# Altium footprint library Modules.PcbLib: 11 footprints
Each footprint in its own frame and in the unit in brackets; x right, y up, seen from the top. Pads: shape width x height; smd on the part's side, far side on the other; paste and mask are expansions set on the pad; w line width, h text height; cw(c..) or ccw(c..) is an arc to the next point about the centre after c.
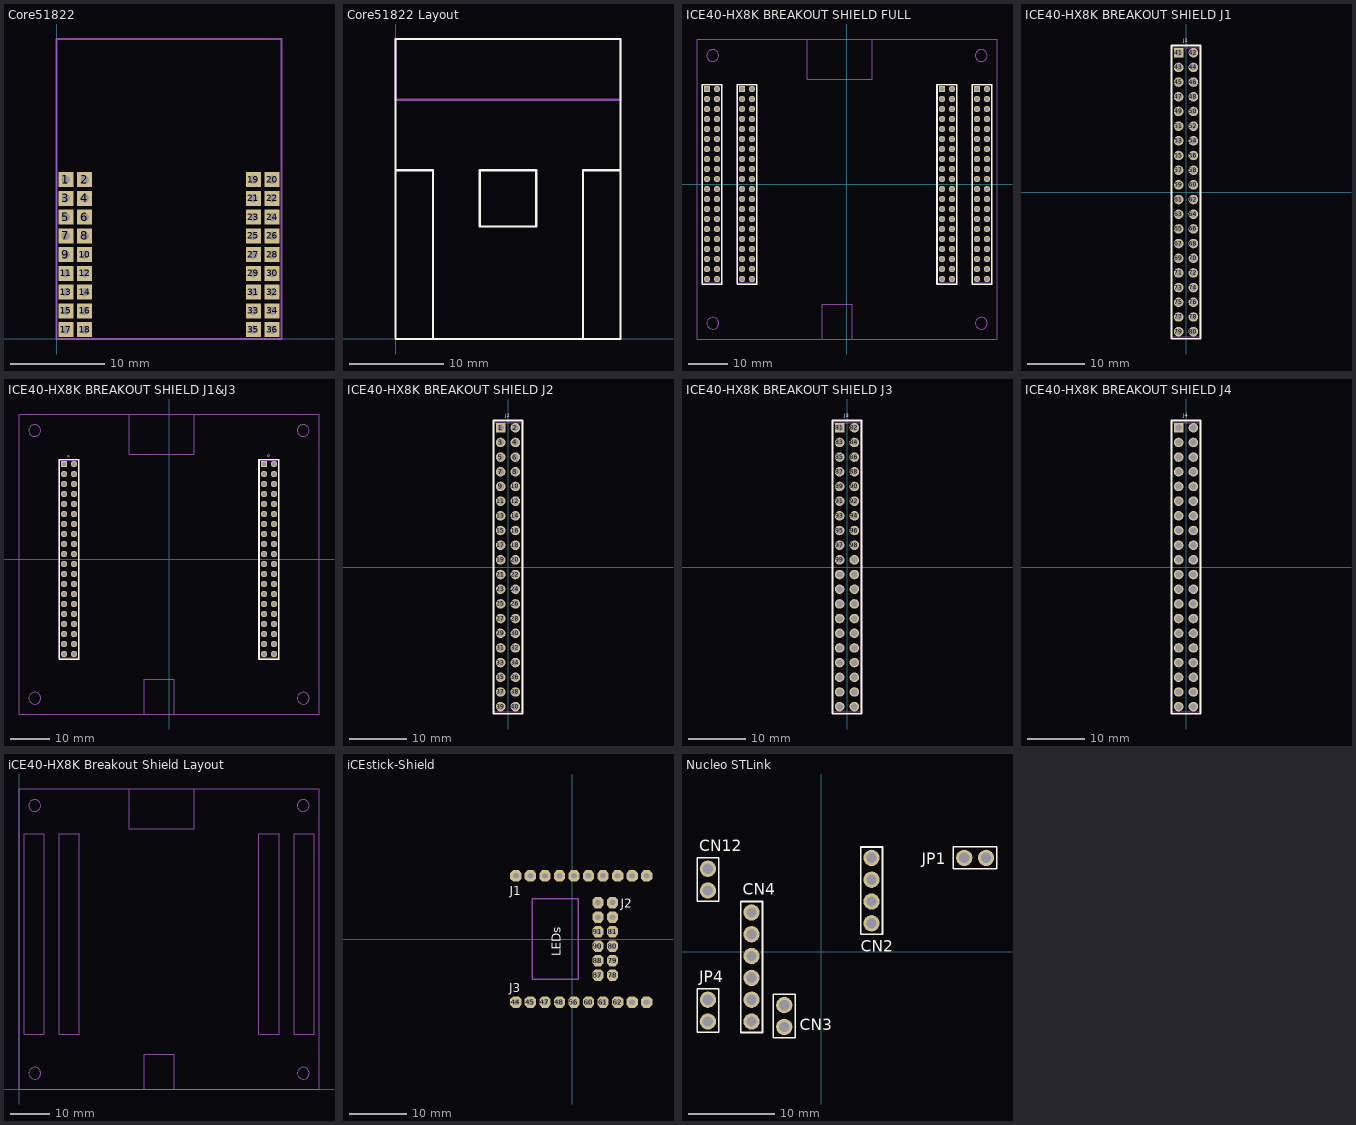
[diagram p0: the footprints below, top view; thin cyan lines are the x and y axes]

## Core51822 [mm]
pads (36):
  rect 1.6x1.6 hole 0.9: 1(1,17) 2(3,17) 3(1,15) 4(3,15) 5(1,13) 6(3,13) 7(1,11) 8(3,11) 9(1,9) 10(3,9) 11(1,7) 12(3,7) 13(1,5) 14(3,5) 15(1,3) 16(3,3) 17(1,1) 18(3,1) 19(21,17) 20(23,17) 21(21,15) 22(23,15) 23(21,13) 24(23,13) 25(21,11) 26(23,11) 27(21,9) 28(23,9) 29(21,7) 30(23,7) 31(21,5) 32(23,5) 33(21,3) 34(23,3) 35(21,1) 36(23,1)
Mechanical 1:
  lines w0.254: 0,0 24,0 24,32 0,32 0,0

## Core51822 Layout [mm]
Top Overlay:
  lines w0.254: 0,18 4,18 4,0 ; 20,0 20,18 24,18 ; 0,0 0,32 24,32 24,0 0,0 ; 9,12 15,12 15,18 9,18 9,12
Mechanical 12:
  lines w0.254: 0,25.5 0,32 24,32 24,25.5 0,25.5

## ICE40-HX8K BREAKOUT SHIELD FULL [mm]
pads (160):
  rect 1.65x1.65 / inner round 1.65 / far side rect 1.65x1.65 hole 1.1: 1(-35.56,24.13) 41(-26.67,24.13) 81(24.13,24.13) 121(33.02,24.13)
  round 1.65 hole 1.1: 2(-33.02,24.13) 3(-35.56,21.59) 4(-33.02,21.59) 5(-35.56,19.05) 6(-33.02,19.05) 7(-35.56,16.51) 8(-33.02,16.51) 9(-35.56,13.97) 10(-33.02,13.97) 11(-35.56,11.43) 12(-33.02,11.43) 13(-35.56,8.89) 14(-33.02,8.89) 15(-35.56,6.35) 16(-33.02,6.35) 17(-35.56,3.81) 18(-33.02,3.81) 19(-35.56,1.27) 20(-33.02,1.27) 21(-35.56,-1.27) 22(-33.02,-1.27) 23(-35.56,-3.81) 24(-33.02,-3.81) 25(-35.56,-6.35) 26(-33.02,-6.35) 27(-35.56,-8.89) 28(-33.02,-8.89) 29(-35.56,-11.43) 30(-33.02,-11.43) 31(-35.56,-13.97) 32(-33.02,-13.97) 33(-35.56,-16.51) 34(-33.02,-16.51) 35(-35.56,-19.05) 36(-33.02,-19.05) 37(-35.56,-21.59) 38(-33.02,-21.59) 39(-35.56,-24.13) 40(-33.02,-24.13) 42(-24.13,24.13) 43(-26.67,21.59) 44(-24.13,21.59) 45(-26.67,19.05) 46(-24.13,19.05) 47(-26.67,16.51) 48(-24.13,16.51) 49(-26.67,13.97) 50(-24.13,13.97) 51(-26.67,11.43) 52(-24.13,11.43) 53(-26.67,8.89) 54(-24.13,8.89) 55(-26.67,6.35) 56(-24.13,6.35) 57(-26.67,3.81) 58(-24.13,3.81) 59(-26.67,1.27) 60(-24.13,1.27) 61(-26.67,-1.27) 62(-24.13,-1.27) 63(-26.67,-3.81) 64(-24.13,-3.81) 65(-26.67,-6.35) 66(-24.13,-6.35) 67(-26.67,-8.89) 68(-24.13,-8.89) 69(-26.67,-11.43) 70(-24.13,-11.43) 71(-26.67,-13.97) 72(-24.13,-13.97) 73(-26.67,-16.51) 74(-24.13,-16.51) 75(-26.67,-19.05) 76(-24.13,-19.05) 77(-26.67,-21.59) 78(-24.13,-21.59) 79(-26.67,-24.13) 80(-24.13,-24.13) 82(26.67,24.13) 83(24.13,21.59) 84(26.67,21.59) 85(24.13,19.05) 86(26.67,19.05) 87(24.13,16.51) 88(26.67,16.51) 89(24.13,13.97) 90(26.67,13.97) 91(24.13,11.43) 92(26.67,11.43) 93(24.13,8.89) 94(26.67,8.89) 95(24.13,6.35) 96(26.67,6.35) 97(24.13,3.81) 98(26.67,3.81) 99(24.13,1.27) 100(26.67,1.27) 101(24.13,-1.27) 102(26.67,-1.27) 103(24.13,-3.81) 104(26.67,-3.81) 105(24.13,-6.35) 106(26.67,-6.35) 107(24.13,-8.89) 108(26.67,-8.89) 109(24.13,-11.43) 110(26.67,-11.43) 111(24.13,-13.97) 112(26.67,-13.97) 113(24.13,-16.51) 114(26.67,-16.51) 115(24.13,-19.05) 116(26.67,-19.05) 117(24.13,-21.59) 118(26.67,-21.59) 119(24.13,-24.13) 120(26.67,-24.13) 122(35.56,24.13) 123(33.02,21.59) 124(35.56,21.59) 125(33.02,19.05) 126(35.56,19.05) 127(33.02,16.51) 128(35.56,16.51) 129(33.02,13.97) 130(35.56,13.97) 131(33.02,11.43) 132(35.56,11.43) 133(33.02,8.89) 134(35.56,8.89) 135(33.02,6.35) 136(35.56,6.35) 137(33.02,3.81) 138(35.56,3.81) 139(33.02,1.27) 140(35.56,1.27) 141(33.02,-1.27) 142(35.56,-1.27) 143(33.02,-3.81) 144(35.56,-3.81) 145(33.02,-6.35) 146(35.56,-6.35) 147(33.02,-8.89) 148(35.56,-8.89) 149(33.02,-11.43) 150(35.56,-11.43) 151(33.02,-13.97) 152(35.56,-13.97) 153(33.02,-16.51) 154(35.56,-16.51) 155(33.02,-19.05) 156(35.56,-19.05) 157(33.02,-21.59) 158(35.56,-21.59) 159(33.02,-24.13) 160(35.56,-24.13)
Top Overlay:
  lines w0.2: -36.765,-25.305 -36.765,25.305 -31.815,25.305 -31.815,-25.305 -36.765,-25.305 ; -27.875,-25.305 -22.925,-25.305 -22.925,25.305 -27.875,25.305 -27.875,-25.305 ; 22.925,-25.305 22.925,25.305 27.875,25.305 27.875,-25.305 22.925,-25.305 ; 31.815,-25.305 31.815,25.305 36.765,25.305 36.765,-25.305 31.815,-25.305
  lines w0.254: -36.83,-25.4 -36.83,25.4 -31.75,25.4 -31.75,-25.4 -36.83,-25.4 ; -27.94,-25.4 -22.86,-25.4 -22.86,25.4 -27.94,25.4 -27.94,-25.4 ; 22.86,-25.4 27.94,-25.4 27.94,25.4 22.86,25.4 22.86,-25.4 ; 31.75,-25.4 36.83,-25.4 36.83,25.4 31.75,25.4 31.75,-25.4
Mechanical 12:
  circle w0.254: c34.1,32.63 r1.5
  circle w0.254: c-34.1,32.63 r1.5
  circle w0.254: c34.1,-35.37 r1.5
  circle w0.254: c-34.1,-35.37 r1.5
Mechanical 13:
  lines w0.254: -10.16,36.83 -10.16,26.67 6.35,26.67 6.35,36.83 ; -6.35,-39.37 -6.35,-30.48 1.27,-30.48 1.27,-39.37 ; -38.1,-39.37 -38.1,36.83 38.1,36.83 38.1,-39.37 -38.1,-39.37
Mechanical 15:
  lines w0.1: -36.765,-25.025 -31.815,-25.025 -31.815,25.025 -36.765,25.025 -36.765,-25.025 ; -27.875,-25.025 -27.875,25.025 -22.925,25.025 -22.925,-25.025 -27.875,-25.025 ; 22.925,-25.025 27.875,-25.025 27.875,25.025 22.925,25.025 22.925,-25.025 ; 31.815,-25.025 36.765,-25.025 36.765,25.025 31.815,25.025 31.815,-25.025

## ICE40-HX8K BREAKOUT SHIELD J1 [mm]
pads (40):
  rect 1.65x1.65 / inner round 1.65 / far side rect 1.65x1.65 hole 1.1: 41(-1.27,24.13)
  round 1.65 hole 1.1: 42(1.27,24.13) 43(-1.27,21.59) 44(1.27,21.59) 45(-1.27,19.05) 46(1.27,19.05) 47(-1.27,16.51) 48(1.27,16.51) 49(-1.27,13.97) 50(1.27,13.97) 51(-1.27,11.43) 52(1.27,11.43) 53(-1.27,8.89) 54(1.27,8.89) 55(-1.27,6.35) 56(1.27,6.35) 57(-1.27,3.81) 58(1.27,3.81) 59(-1.27,1.27) 60(1.27,1.27) 61(-1.27,-1.27) 62(1.27,-1.27) 63(-1.27,-3.81) 64(1.27,-3.81) 65(-1.27,-6.35) 66(1.27,-6.35) 67(-1.27,-8.89) 68(1.27,-8.89) 69(-1.27,-11.43) 70(1.27,-11.43) 71(-1.27,-13.97) 72(1.27,-13.97) 73(-1.27,-16.51) 74(1.27,-16.51) 75(-1.27,-19.05) 76(1.27,-19.05) 77(-1.27,-21.59) 78(1.27,-21.59) 79(-1.27,-24.13) 80(1.27,-24.13)
Top Overlay:
  lines w0.2: -2.475,-25.305 2.475,-25.305 2.475,25.305 -2.475,25.305 -2.475,-25.305
  lines w0.254: -2.54,-25.4 2.54,-25.4 2.54,25.4 -2.54,25.4 -2.54,-25.4
  text "J1" at -0.508,25.908 h0.6
Mechanical 15:
  lines w0.1: -2.475,-25.025 -2.475,25.025 2.475,25.025 2.475,-25.025 -2.475,-25.025

## ICE40-HX8K BREAKOUT SHIELD J1&J3 [mm]
pads (80):
  rect 1.65x1.65 / inner round 1.65 / far side rect 1.65x1.65 hole 1.1: 41(-26.67,24.13) 81(24.13,24.13)
  round 1.65 hole 1.1: 42(-24.13,24.13) 43(-26.67,21.59) 44(-24.13,21.59) 45(-26.67,19.05) 46(-24.13,19.05) 47(-26.67,16.51) 48(-24.13,16.51) 49(-26.67,13.97) 50(-24.13,13.97) 51(-26.67,11.43) 52(-24.13,11.43) 53(-26.67,8.89) 54(-24.13,8.89) 55(-26.67,6.35) 56(-24.13,6.35) 57(-26.67,3.81) 58(-24.13,3.81) 59(-26.67,1.27) 60(-24.13,1.27) 61(-26.67,-1.27) 62(-24.13,-1.27) 63(-26.67,-3.81) 64(-24.13,-3.81) 65(-26.67,-6.35) 66(-24.13,-6.35) 67(-26.67,-8.89) 68(-24.13,-8.89) 69(-26.67,-11.43) 70(-24.13,-11.43) 71(-26.67,-13.97) 72(-24.13,-13.97) 73(-26.67,-16.51) 74(-24.13,-16.51) 75(-26.67,-19.05) 76(-24.13,-19.05) 77(-26.67,-21.59) 78(-24.13,-21.59) 79(-26.67,-24.13) 80(-24.13,-24.13) 82(26.67,24.13) 83(24.13,21.59) 84(26.67,21.59) 85(24.13,19.05) 86(26.67,19.05) 87(24.13,16.51) 88(26.67,16.51) 89(24.13,13.97) 90(26.67,13.97) 91(24.13,11.43) 92(26.67,11.43) 93(24.13,8.89) 94(26.67,8.89) 95(24.13,6.35) 96(26.67,6.35) 97(24.13,3.81) 98(26.67,3.81) 99(24.13,1.27) 100(26.67,1.27) 101(24.13,-1.27) 102(26.67,-1.27) 103(24.13,-3.81) 104(26.67,-3.81) 105(24.13,-6.35) 106(26.67,-6.35) 107(24.13,-8.89) 108(26.67,-8.89) 109(24.13,-11.43) 110(26.67,-11.43) 111(24.13,-13.97) 112(26.67,-13.97) 113(24.13,-16.51) 114(26.67,-16.51) 115(24.13,-19.05) 116(26.67,-19.05) 117(24.13,-21.59) 118(26.67,-21.59) 119(24.13,-24.13) 120(26.67,-24.13)
Top Overlay:
  lines w0.2: -27.875,-25.305 -22.925,-25.305 -22.925,25.305 -27.875,25.305 -27.875,-25.305 ; 22.925,-25.305 22.925,25.305 27.875,25.305 27.875,-25.305 22.925,-25.305
  lines w0.254: -27.94,-25.4 -22.86,-25.4 -22.86,25.4 -27.94,25.4 -27.94,-25.4 ; 22.86,-25.4 27.94,-25.4 27.94,25.4 22.86,25.4 22.86,-25.4
  text "J1" at -25.908,25.908 h0.6
  text "J3" at 24.932,26 h0.6
Mechanical 12:
  circle w0.254: c34.1,32.63 r1.5
  circle w0.254: c-34.1,32.63 r1.5
  circle w0.254: c34.1,-35.37 r1.5
  circle w0.254: c-34.1,-35.37 r1.5
Mechanical 13:
  lines w0.254: -10.16,36.83 -10.16,26.67 6.35,26.67 6.35,36.83 ; -6.35,-39.37 -6.35,-30.48 1.27,-30.48 1.27,-39.37 ; -38.1,-39.37 -38.1,36.83 38.1,36.83 38.1,-39.37 -38.1,-39.37
Mechanical 15:
  lines w0.1: -27.875,-25.025 -22.925,-25.025 -22.925,25.025 -27.875,25.025 -27.875,-25.025 ; 22.925,-25.025 22.925,25.025 27.875,25.025 27.875,-25.025 22.925,-25.025

## ICE40-HX8K BREAKOUT SHIELD J2 [mm]
pads (40):
  rect 1.65x1.65 / inner round 1.65 / far side rect 1.65x1.65 hole 1.1: 1(-1.27,24.13)
  round 1.65 hole 1.1: 2(1.27,24.13) 3(-1.27,21.59) 4(1.27,21.59) 5(-1.27,19.05) 6(1.27,19.05) 7(-1.27,16.51) 8(1.27,16.51) 9(-1.27,13.97) 10(1.27,13.97) 11(-1.27,11.43) 12(1.27,11.43) 13(-1.27,8.89) 14(1.27,8.89) 15(-1.27,6.35) 16(1.27,6.35) 17(-1.27,3.81) 18(1.27,3.81) 19(-1.27,1.27) 20(1.27,1.27) 21(-1.27,-1.27) 22(1.27,-1.27) 23(-1.27,-3.81) 24(1.27,-3.81) 25(-1.27,-6.35) 26(1.27,-6.35) 27(-1.27,-8.89) 28(1.27,-8.89) 29(-1.27,-11.43) 30(1.27,-11.43) 31(-1.27,-13.97) 32(1.27,-13.97) 33(-1.27,-16.51) 34(1.27,-16.51) 35(-1.27,-19.05) 36(1.27,-19.05) 37(-1.27,-21.59) 38(1.27,-21.59) 39(-1.27,-24.13) 40(1.27,-24.13)
Top Overlay:
  lines w0.2: -2.475,-25.305 -2.475,25.305 2.475,25.305 2.475,-25.305 -2.475,-25.305
  lines w0.254: -2.54,-25.4 -2.54,25.4 2.54,25.4 2.54,-25.4 -2.54,-25.4
  text "J2" at -0.508,25.908 h0.6
Mechanical 15:
  lines w0.1: -2.475,-25.025 2.475,-25.025 2.475,25.025 -2.475,25.025 -2.475,-25.025

## ICE40-HX8K BREAKOUT SHIELD J3 [mm]
pads (40):
  rect 1.65x1.65 / inner round 1.65 / far side rect 1.65x1.65 hole 1.1: 81(-1.27,24.13)
  round 1.65 hole 1.1: 82(1.27,24.13) 83(-1.27,21.59) 84(1.27,21.59) 85(-1.27,19.05) 86(1.27,19.05) 87(-1.27,16.51) 88(1.27,16.51) 89(-1.27,13.97) 90(1.27,13.97) 91(-1.27,11.43) 92(1.27,11.43) 93(-1.27,8.89) 94(1.27,8.89) 95(-1.27,6.35) 96(1.27,6.35) 97(-1.27,3.81) 98(1.27,3.81) 99(-1.27,1.27) 100(1.27,1.27) 101(-1.27,-1.27) 102(1.27,-1.27) 103(-1.27,-3.81) 104(1.27,-3.81) 105(-1.27,-6.35) 106(1.27,-6.35) 107(-1.27,-8.89) 108(1.27,-8.89) 109(-1.27,-11.43) 110(1.27,-11.43) 111(-1.27,-13.97) 112(1.27,-13.97) 113(-1.27,-16.51) 114(1.27,-16.51) 115(-1.27,-19.05) 116(1.27,-19.05) 117(-1.27,-21.59) 118(1.27,-21.59) 119(-1.27,-24.13) 120(1.27,-24.13)
Top Overlay:
  lines w0.2: -2.475,-25.305 -2.475,25.305 2.475,25.305 2.475,-25.305 -2.475,-25.305
  lines w0.254: -2.54,-25.4 2.54,-25.4 2.54,25.4 -2.54,25.4 -2.54,-25.4
  text "J3" at -0.508,25.908 h0.6
Mechanical 15:
  lines w0.1: -2.475,-25.025 2.475,-25.025 2.475,25.025 -2.475,25.025 -2.475,-25.025

## ICE40-HX8K BREAKOUT SHIELD J4 [mm]
pads (40):
  rect 1.65x1.65 / inner round 1.65 / far side rect 1.65x1.65 hole 1.1: 121(-1.27,24.13)
  round 1.65 hole 1.1: 122(1.27,24.13) 123(-1.27,21.59) 124(1.27,21.59) 125(-1.27,19.05) 126(1.27,19.05) 127(-1.27,16.51) 128(1.27,16.51) 129(-1.27,13.97) 130(1.27,13.97) 131(-1.27,11.43) 132(1.27,11.43) 133(-1.27,8.89) 134(1.27,8.89) 135(-1.27,6.35) 136(1.27,6.35) 137(-1.27,3.81) 138(1.27,3.81) 139(-1.27,1.27) 140(1.27,1.27) 141(-1.27,-1.27) 142(1.27,-1.27) 143(-1.27,-3.81) 144(1.27,-3.81) 145(-1.27,-6.35) 146(1.27,-6.35) 147(-1.27,-8.89) 148(1.27,-8.89) 149(-1.27,-11.43) 150(1.27,-11.43) 151(-1.27,-13.97) 152(1.27,-13.97) 153(-1.27,-16.51) 154(1.27,-16.51) 155(-1.27,-19.05) 156(1.27,-19.05) 157(-1.27,-21.59) 158(1.27,-21.59) 159(-1.27,-24.13) 160(1.27,-24.13)
Top Overlay:
  lines w0.2: -2.475,-25.305 2.475,-25.305 2.475,25.305 -2.475,25.305 -2.475,-25.305
  lines w0.254: -2.54,-25.4 -2.54,25.4 2.54,25.4 2.54,-25.4 -2.54,-25.4
  text "J4" at -0.508,25.908 h0.6
Mechanical 15:
  lines w0.1: -2.475,-25.025 -2.475,25.025 2.475,25.025 2.475,-25.025 -2.475,-25.025

## iCE40-HX8K Breakout Shield Layout [mm]
Mechanical 12:
  circle w0.254: c72.2,72 r1.5
  circle w0.254: c4,72 r1.5
  circle w0.254: c72.2,4 r1.5
  circle w0.254: c4,4 r1.5
Mechanical 13:
  lines w0.254: 27.94,76.2 27.94,66.04 44.45,66.04 44.45,76.2 ; 31.75,0 31.75,8.89 39.37,8.89 39.37,0 ; 0,0 0,76.2 76.2,76.2 76.2,0 0,0 ; 1.27,13.97 1.27,64.77 6.35,64.77 6.35,13.97 1.27,13.97 ; 10.16,13.97 15.24,13.97 15.24,64.77 10.16,64.77 10.16,13.97 ; 60.96,13.97 60.96,64.77 66.04,64.77 66.04,13.97 60.96,13.97 ; 69.85,13.97 74.93,13.97 74.93,64.77 69.85,64.77 69.85,13.97

## iCEstick-Shield [mm]
pads (32):
  oct 2x2 hole 1: 3V3(4.5,6.37) 3V3(7.04,6.37) 3V3(13,-11.05) 3V3(13,11.05) 44(-9.86,-11.05) 45(-7.32,-11.05) 47(-4.78,-11.05) 48(-2.24,-11.05) 56(0.3,-11.05) 60(2.84,-11.05) 61(5.38,-11.05) 62(7.92,-11.05) 78(7.04,-6.33) 79(7.04,-3.79) 80(7.04,-1.25) 81(7.04,1.29) 87(4.5,-6.33) 88(4.5,-3.79) 90(4.5,-1.25) 91(4.5,1.29) 112(7.92,11.05) 113(5.38,11.05) 114(2.84,11.05) 115(0.3,11.05) 116(-2.24,11.05) 117(-4.78,11.05) 118(-7.32,11.05) 119(-9.86,11.05) GND(4.5,3.83) GND(7.04,3.83) GND(10.46,-11.05) GND(10.46,11.05)
Top Overlay:
  text "J2" at 8.5,5.5 h1.52
  text "J1" at -10.9,7.7 h1.52
  text "J3" at -11,-9.35 h1.52
  text "LEDs" at -2,-3 h1.52
Bottom Overlay:
  lines w0.254: -37.5,-13 15,-13 15,13 -37.5,13
Mechanical 12:
  lines w0.254: -7,-7 1,-7 1,7 -7,7 -7,-7
3D body: height 2, standoff -9.6, extent 3.23,-7.6 8.31,7.64
3D body: height 2, standoff -9.5, extent -11.53,9.78 14.67,12.32
3D body: height 2, standoff -9.5, extent -11.53,-12.32 14.67,-9.78

## Nucleo STLink [mm]
pads (18):
  round 1.9 hole 1.2: CN2-1(5.842,10.922) CN2-2(5.842,8.382) CN2-3(5.842,5.842) CN2-4(5.842,3.302) CN3-1(-4.318,-8.763) CN3-2(-4.318,-6.223) CN4-1(-8.128,4.572) CN4-2(-8.128,2.032) CN4-3(-8.128,-0.508) CN4-4(-8.128,-3.048) CN4-5(-8.128,-5.588) CN4-6(-8.128,-8.128) CN12-1(-13.208,7.112) CN12-2(-13.208,9.652) JP1-1(16.637,10.922) JP1-2(19.177,10.922) JP4-1(-13.208,-8.128) JP4-2(-13.208,-5.588)
Top Overlay:
  lines w0.152: -14.477,-9.397 -11.937,-9.397 -11.937,-4.317 -14.477,-4.317 -14.477,-9.397 ; -14.477,5.843 -11.937,5.843 -11.937,10.923 -14.477,10.923 -14.477,5.843 ; -5.587,-10.032 -3.047,-10.032 -3.047,-4.952 -5.587,-4.952 -5.587,-10.032 ; 15.368,9.651 15.368,12.191 20.448,12.191 20.448,9.651 15.368,9.651
  lines w0.2: -9.398,-9.398 -9.398,5.842 -6.858,5.842 -6.858,-9.398 -9.398,-9.398 ; 4.572,2.032 4.572,12.192 7.112,12.192 7.112,2.032 4.572,2.032
  text "CN12" at -14.224,11.684 h1.3
  text "JP4" at -14.224,-3.556 h1.3
  text "CN4" at -9.144,6.604 h1.3
  text "CN3" at -2.54,-9.144 h1.3
  text "CN2" at 4.572,0 h1.3
  text "JP1" at 11.684,10.16 h1.3